# EAGLE library part EZG-?-326 (library con-lemo)
LEMO Connector Source: http://www.lemo.com/pdfs/catalog/ROW/German/unipole_multipole.pdf
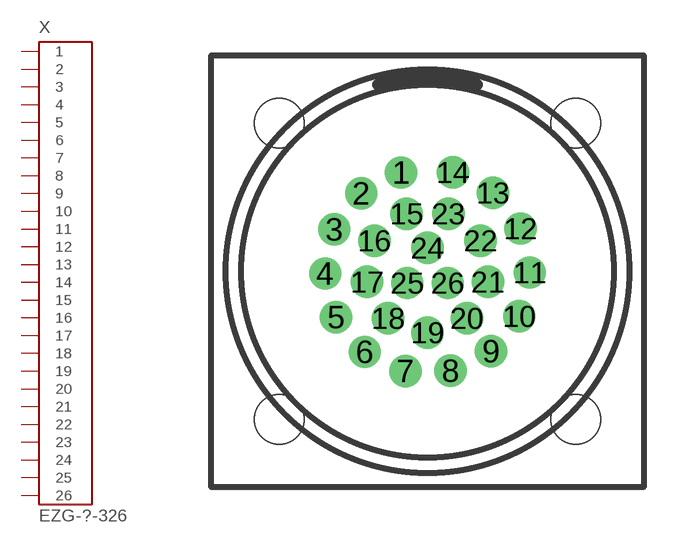
[diagram p5: symbol with the pads of EZG-2B-2K-326; footprint EZG-2B-2K-326]

Designator prefix X

## EZG-2B-326 (OC_FARNELL: unknown; OC_NEWARK: unknown)  [EZG-2B-2K-326]
1  1  pas
2  2  pas
3  3  pas
4  4  pas
5  5  pas
6  6  pas
7  7  pas
8  8  pas
9  9  pas
10  10  pas
11  11  pas
12  12  pas
13  13  pas
14  14  pas
15  15  pas
16  16  pas
17  17  pas
18  18  pas
19  19  pas
20  20  pas
21  21  pas
22  22  pas
23  23  pas
24  24  pas
25  25  pas
26  26  pas

## EZG-2K-326 (OC_FARNELL: unknown; OC_NEWARK: unknown)  [EZG-2B-2K-326]
Pads as for EZG-2B-2K-326

## Footprint EZG-2B-2K-326 (pad centres in mm)
LEMO Connector Source: http://www.lemo.com/pdfs/catalog/ROW/German/unipole_multipole.pdf
drill 0.6 pad 1: 1 -0.906,3.381; 2 -2.27,2.664; 3 -3.194,1.431; 4 -3.499,-0.079; 5 -3.126,-1.574; 6 -2.147,-2.764; 7 -0.753,-3.418; 8 0.788,-3.41; 9 2.176,-2.741; 10 3.142,-1.541; 11 3.5,-0.043; 12 3.179,1.464; 13 2.242,2.687; 14 0.871,3.39; 15 -0.718,1.973; 16 -1.819,1.05; 17 -2.068,-0.365; 18 -1.35,-1.609; 19 0,-2.1; 20 1.35,-1.609; 21 2.068,-0.365; 22 1.819,1.05; 23 0.718,1.973; 24 0,0.8; 25 -0.693,-0.4; 26 0.693,-0.4
hole 1.7 at -5.08,5.08
hole 1.7 at 5.08,5.08
hole 1.7 at 5.08,-5.08
hole 1.7 at -5.08,-5.08